# Altium schematic symbol library PT_4PIN_2.54mm.SchLib: 1 symbol
Pins are listed as number, name and electrical type; pins without a type are passive.

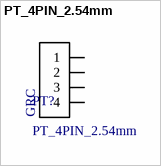
[diagram p0: symbol PT_4PIN_2.54mm]

## PT_4PIN_2.54mm
designator PT?
footprint PT_4PIN_2.54mm
pins: 1, 2, 3, 4
text: GRC